# Altium schematic symbol library SCH - POWER - VOLTAGE REFERENCES - ANALOG DEVICES LTC6655LN.SchLib: 1 symbol
Pins are listed as number, name and electrical type; pins without a type are passive.

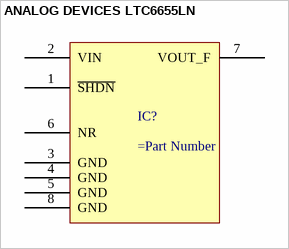
[diagram p0: symbol ANALOG DEVICES LTC6655LN]

## ANALOG DEVICES LTC6655LN
designator IC?
pins: 1 ~{SHDN}, 2 VIN, 3 GND, 4 GND, 5 GND, 6 NR, 7 VOUT_F, 8 GND